# Altium footprint library Header-2.54mm-1X8-M-V.PcbLib: 1 footprints
Each footprint in its own frame and in the unit in brackets; x right, y up, seen from the top. Pads: shape width x height; smd on the part's side, far side on the other; paste and mask are expansions set on the pad; w line width, h text height; cw(c..) or ccw(c..) is an arc to the next point about the centre after c.
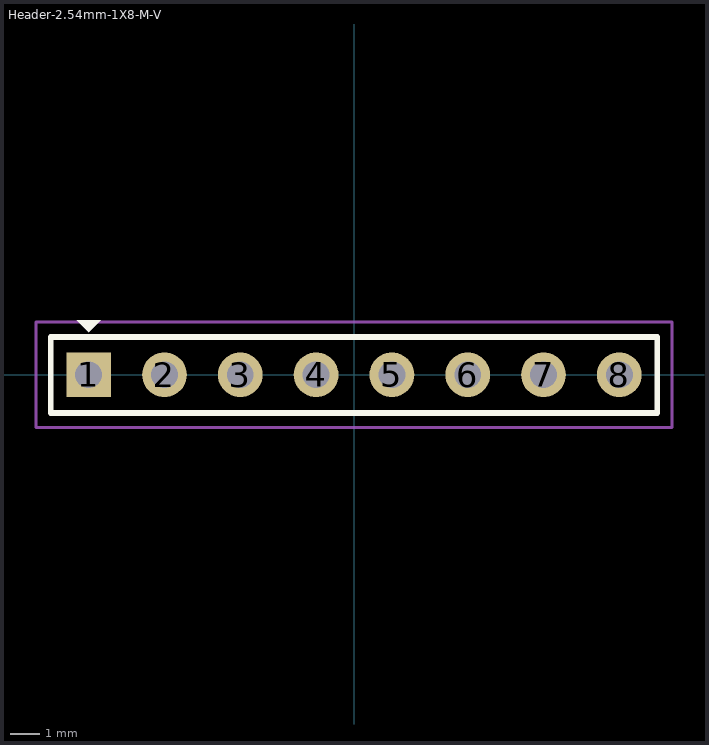
[diagram p0: the footprint, top view; thin cyan lines are the x and y axes]

## Header-2.54mm-1X8-M-V [mm]
pads (8):
  rect 1.5x1.5 hole 0.9: 1(-8.89,0)
  round 1.5 hole 0.9: 2(-6.35,0) 3(-3.81,0) 4(-1.27,0) 5(1.27,0) 6(3.81,0) 7(6.35,0) 8(8.89,0)
Top Overlay:
  region: -9.29,1.825 -8.49,1.825 -8.89,1.425
  lines w0.2: -10.16,-1.273 -10.16,1.267 10.16,1.267 10.16,-1.273 -10.16,-1.273
Top Courtyard:
  lines w0.1: -10.66,-1.773 -10.66,1.767 10.66,1.767 10.66,-1.773 -10.16,-1.773 -10.66,-1.773
3D body "Pin Header Male 01x01 P2.54mm.stp": height 8.34, standoff -3.05, extent -7.62,-1.272 -5.08,1.268
3D body: height 3, standoff 0, extent -7.087,-0.737 -5.613,0.737
3D body "Pin Header Male 01x01 P2.54mm.stp": height 8.34, standoff -3.05, extent -10.16,-1.272 -7.62,1.268
3D body: height 3, standoff 0, extent -9.627,-0.737 -8.153,0.737
3D body "Pin Header Male 01x01 P2.54mm.stp": height 8.34, standoff -3.05, extent -5.08,-1.272 -2.54,1.268
3D body: height 3, standoff 0, extent -4.547,-0.737 -3.073,0.737
3D body "Pin Header Male 01x01 P2.54mm.stp": height 8.34, standoff -3.05, extent -2.54,-1.272 0,1.268
3D body: height 3, standoff 0, extent -2.007,-0.737 -0.533,0.737
3D body "Pin Header Male 01x01 P2.54mm.stp": height 8.34, standoff -3.05, extent 0,-1.272 2.54,1.268
3D body: height 3, standoff 0, extent 0.533,-0.737 2.007,0.737
3D body "Pin Header Male 01x01 P2.54mm.stp": height 8.34, standoff -3.05, extent 2.54,-1.272 5.08,1.268
3D body: height 3, standoff 0, extent 3.073,-0.737 4.547,0.737
3D body "Pin Header Male 01x01 P2.54mm.stp": height 8.34, standoff -3.05, extent 5.08,-1.272 7.62,1.268
3D body: height 3, standoff 0, extent 5.613,-0.737 7.087,0.737
3D body "Pin Header Male 01x01 P2.54mm.stp": height 8.34, standoff -3.05, extent 7.62,-1.272 10.16,1.268
3D body: height 3, standoff 0, extent 8.153,-0.737 9.627,0.737